# Altium schematic symbol library Components - 31.03.22 - 07.08.SchLib: 1 symbol
Pins are listed as number, name and electrical type; pins without a type are passive.

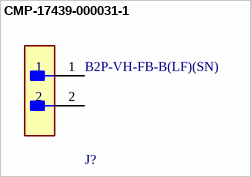
[diagram p0: symbol CMP-17439-000031-1]

## CMP-17439-000031-1
designator J?, comment B2P-VH-FB-B(LF)(SN)
CONN HEADER VERT 2POS 3.96MM; Connector Type: Male Pin; Pitch: 0.156inch; Number of Positions: 2; Packaging: Bulk; Package Quantity: 250; Termination: Solder; Lead Free: Lead Free; Contact Plating: Tin; Contact Type: Male Pin; Color: Natural; Fastening Type: Ramp; Number of Rows: 1; Mount: Through Hole; Series: VH
footprint FP-B2P-VH-FB-B_LF_SN-MFG
pins: 1, 2